# EAGLE library part 01STANDARD_PQ2620_THT_V_12PIN (library Wurth Electronics Midcom Inc V1-0)
Package Style: Standard PQ2620 Mounting: THT Pins: 12 pins Bobbin: 070-5673 Best pinouts for production vary per application. Please contact Wurth Electronics Midcom, Inc. for assistance with your custom design. Website: Wurth Electronics Midcom <http://www.we-online.com/midcom> Contact us Wurth Electronics Midcom, Inc. 121 Airport Dr. Watertown, SD 57201 Phone: (605) 886-4385 Fax: (605) 886-4486 E-Mail: midcom@we-online.com
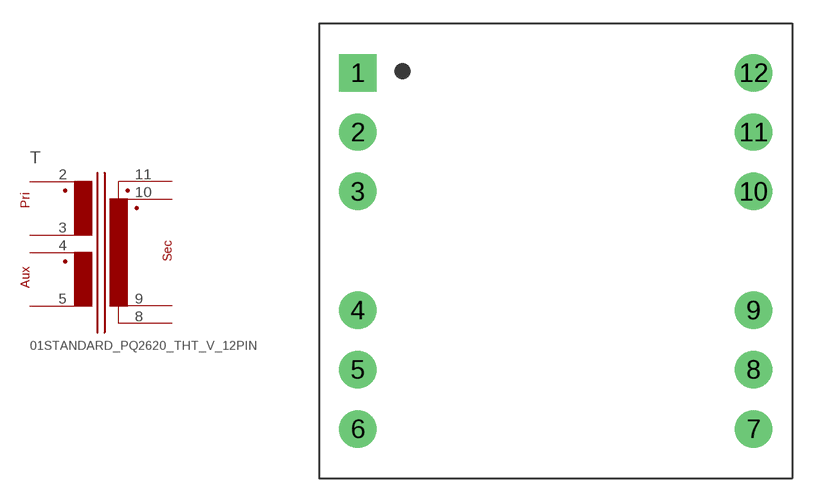
[diagram p190: symbol with the pads of 01STANDARD_PQ2620_THT_V_12PIN; footprint 01STANDARD_PQ2620_THT_V_12PIN]

Designator prefix T

## 01STANDARD_PQ2620_THT_V_12PIN  [01STANDARD_PQ2620_THT_V_12PIN]
2  1  pas
3  2  pas
4  3  pas
5  4  pas
8  6  pas
9  8  pas
10  7  pas
11  5  pas

## Footprint 01STANDARD_PQ2620_THT_V_12PIN (pad centres in mm)
Package Style: Speedy PQ2620 Mounting: THT Pins: 12 pins Bobbin: 070-5673
drill 1.6 square: 1 -12.7,11.43
drill 1.6 round: 2 -12.7,7.62; 3 -12.7,3.81; 4 -12.7,-3.81; 5 -12.7,-7.62; 6 -12.7,-11.43; 7 12.7,-11.43; 8 12.7,-7.62; 9 12.7,-3.81; 10 12.7,3.81; 11 12.7,7.62; 12 12.7,11.43